# Altium footprint library Diodes.PcbLib: 27 footprints (part 1 of 2)
Each footprint in its own frame and in the unit in brackets; x right, y up, seen from the top. Pads: shape width x height; smd on the part's side, far side on the other; paste and mask are expansions set on the pad; w line width, h text height; cw(c..) or ccw(c..) is an arc to the next point about the centre after c.
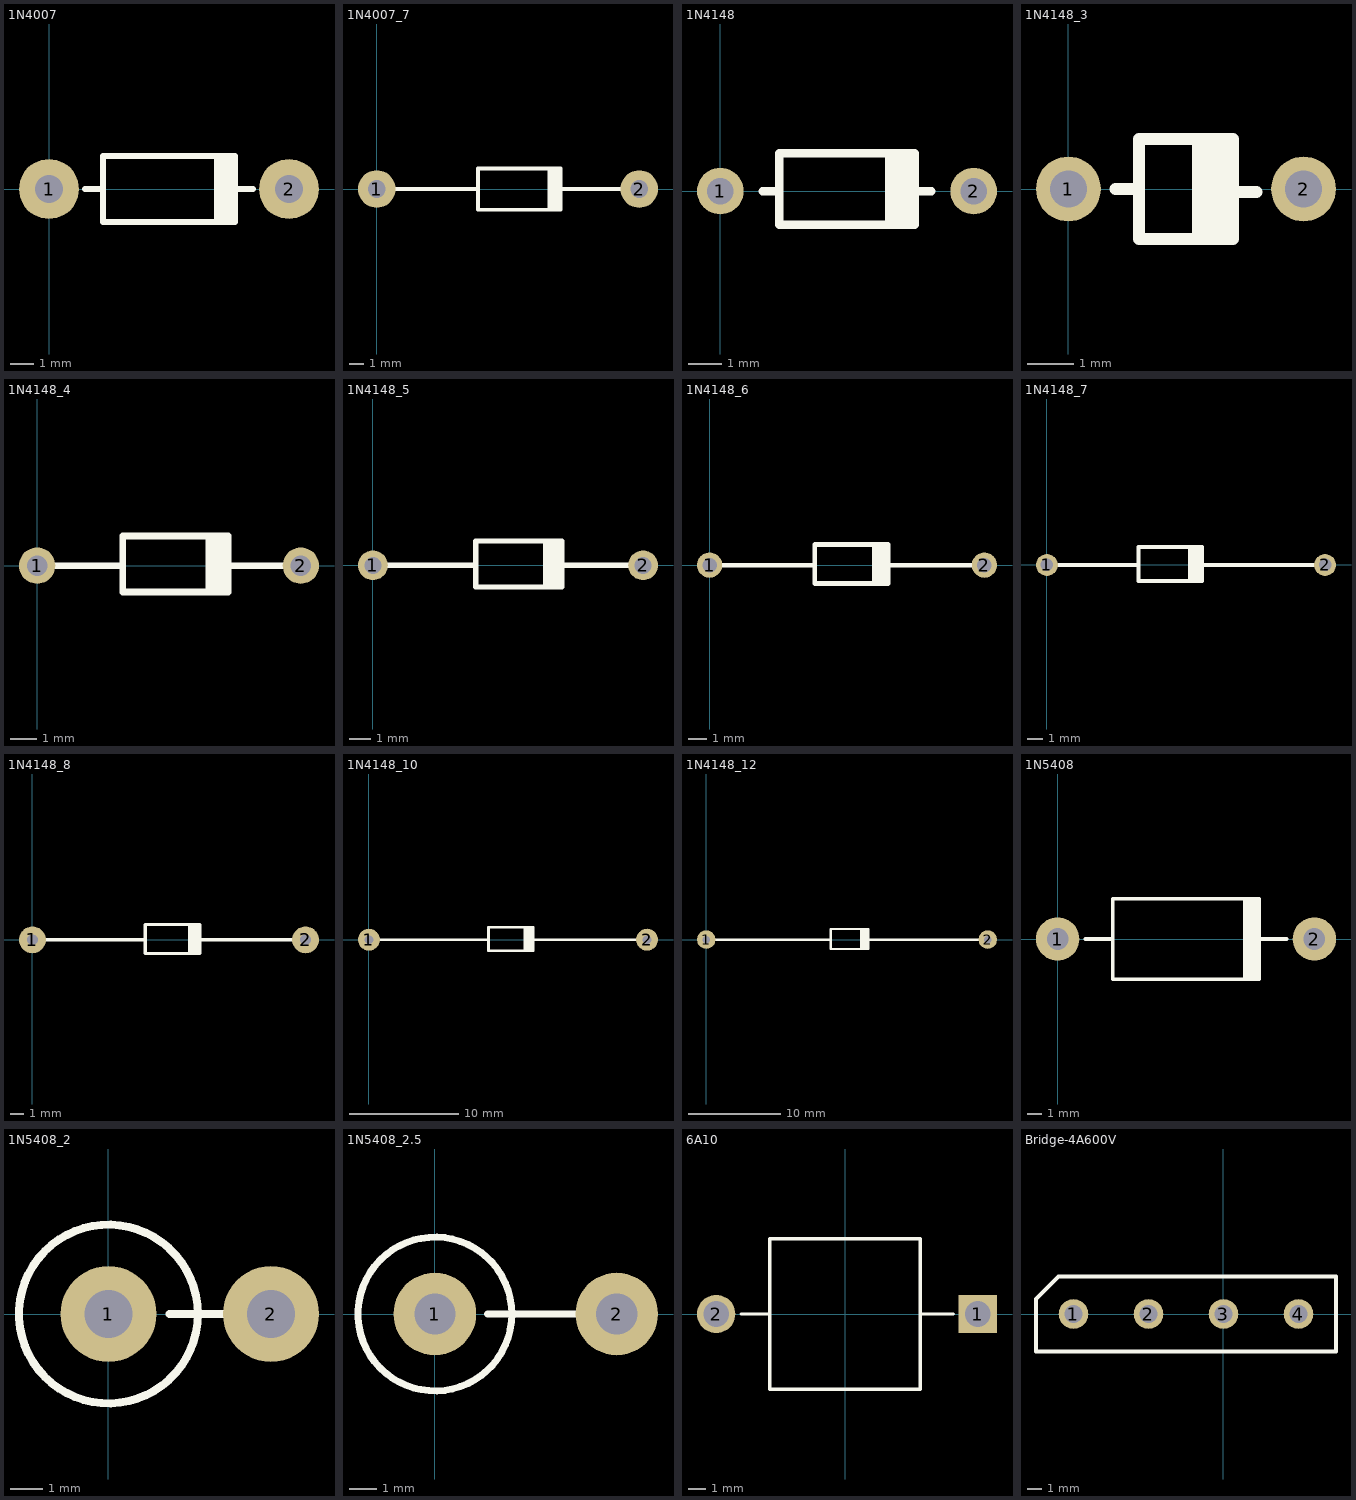
[diagram p0: the footprints below, top view; thin cyan lines are the x and y axes]

## 1N4007 [mm]
pads (2):
  round 2.54 hole 1.2: 1(0,0) 2(10.16,0)
Top Overlay:
  lines w0.254: 1.524,0 2.286,0 ; 7.112,-1.397 7.112,1.397 ; 7.366,-1.397 7.366,1.397 ; 7.62,-1.397 7.62,1.397 ; 7.874,0 8.636,0 ; 2.286,-1.397 7.874,-1.397 7.874,1.397 2.286,1.397 2.286,-1.397

## 1N4007_7 [mm]
pads (2):
  round 2.54 hole 1.2: 1(0,0) 2(17.78,0)
Top Overlay:
  lines w0.254: 0,0 6.858,0 ; 11.684,-1.397 11.684,1.397 ; 11.938,-1.397 11.938,1.397 ; 12.192,-1.397 12.192,1.397 ; 12.446,0 17.78,0 ; 6.858,-1.397 12.446,-1.397 12.446,1.397 6.858,1.397 6.858,-1.397

## 1N4148 [mm]
pads (2):
  round 1.4 hole 0.8: 1(0,0) 2(7.62,0)
Top Overlay:
  lines w0.254: 1.27,0 1.778,0 ; 5.08,-1.016 5.08,1.143 ; 5.334,-1.016 5.334,1.143 ; 5.588,-1.016 5.588,1.143 ; 5.842,0 6.35,0 ; 1.778,-1.016 1.778,1.143 5.842,1.143 5.842,-1.016 1.778,-1.016

## 1N4148_3 [mm]
pads (2):
  round 1.4 hole 0.8: 1(0,0) 2(5.08,0)
Top Overlay:
  lines w0.254: 1.016,0 1.524,0 ; 2.794,-1.079 2.794,1.079 ; 3.048,-1.079 3.048,1.079 ; 3.302,-1.079 3.302,1.079 ; 3.556,-0.064 4.064,-0.064 ; 1.524,-1.079 3.556,-1.079 3.556,1.079 1.524,1.079 1.524,-1.079

## 1N4148_4 [mm]
pads (2):
  round 1.4 hole 0.8: 1(0,0) 2(10.16,0)
Top Overlay:
  lines w0.254: 0,0 3.302,0 ; 6.604,-1.016 6.604,1.143 ; 6.858,-1.016 6.858,1.143 ; 7.112,-1.016 7.112,1.143 ; 7.366,0 10.16,0 ; 3.302,-1.016 3.302,1.143 7.366,1.143 7.366,-1.016 3.302,-1.016

## 1N4148_5 [mm]
pads (2):
  round 1.4 hole 0.8: 1(0,0) 2(12.7,0)
Top Overlay:
  lines w0.254: 0,0 4.826,0 ; 8.128,-1.016 8.128,1.143 ; 8.382,-1.016 8.382,1.143 ; 8.636,-1.016 8.636,1.143 ; 8.89,0 12.7,0 ; 4.826,-1.016 4.826,1.143 8.89,1.143 8.89,-1.016 4.826,-1.016

## 1N4148_6 [mm]
pads (2):
  round 1.4 hole 0.8: 1(0,0) 2(15.24,0)
Top Overlay:
  lines w0.254: 0,0 5.842,0 ; 9.144,-1.016 9.144,1.143 ; 9.398,-1.016 9.398,1.143 ; 9.652,-1.016 9.652,1.143 ; 9.906,0 15.24,0 ; 5.842,-1.016 9.906,-1.016 9.906,1.143 5.842,1.143 5.842,-1.016

## 1N4148_7 [mm]
pads (2):
  round 1.4 hole 0.8: 1(0,0) 2(17.78,0)
Top Overlay:
  lines w0.254: 0,0 5.842,0 ; 9.144,-1.016 9.144,1.143 ; 9.398,-1.016 9.398,1.143 ; 9.652,-1.016 9.652,1.143 ; 9.906,0 17.78,0 ; 5.842,-1.016 9.906,-1.016 9.906,1.143 5.842,1.143 5.842,-1.016

## 1N4148_8 [mm]
pads (2):
  round 2 hole 0.8: 1(0,0) 2(20.32,0)
Top Overlay:
  lines w0.254: 0,0 8.382,0 ; 11.684,-1.016 11.684,1.143 ; 11.938,-1.016 11.938,1.143 ; 12.192,-1.016 12.192,1.143 ; 12.446,0 20.32,0 ; 8.382,-1.016 12.446,-1.016 12.446,1.143 8.382,1.143 8.382,-1.016

## 1N4148_10 [mm]
pads (2):
  round 2 hole 0.8: 1(0,0) 2(25.4,0)
Top Overlay:
  lines w0.254: 0,0 10.922,0 ; 14.224,-1.016 14.224,1.143 ; 14.478,-1.016 14.478,1.143 ; 14.732,-1.016 14.732,1.143 ; 14.986,0 25.4,0 ; 10.922,-1.016 14.986,-1.016 14.986,1.143 10.922,1.143 10.922,-1.016

## 1N4148_12 [mm]
pads (2):
  round 2 hole 0.8: 1(0,0) 2(30.48,0)
Top Overlay:
  lines w0.254: 0,0 13.462,0 ; 16.764,-1.016 16.764,1.143 ; 17.018,-1.016 17.018,1.143 ; 17.272,-1.016 17.272,1.143 ; 17.526,0 30.48,0 ; 13.462,-1.016 17.526,-1.016 17.526,1.143 13.462,1.143 13.462,-1.016

## 1N5408 [mm]
pads (2):
  round 3 hole 1.5: 1(0,0) 2(17.78,0)
Top Overlay:
  lines w0.254: 1.905,0 3.81,0 ; 13.208,-2.794 13.208,2.794 ; 13.462,-2.794 13.462,2.794 ; 13.716,-2.794 13.716,2.794 ; 13.97,0 15.875,0 ; 12.954,-2.794 12.954,2.794 ; 12.954,-2.794 12.954,2.794 ; 12.954,-2.794 12.954,2.794 ; 3.81,-2.794 13.97,-2.794 13.97,2.794 3.81,2.794 3.81,-2.794

## 1N5408_2 [mm]
pads (2):
  round 3 hole 1.5: 1(0,0) 2(5.08,0)
Top Overlay:
  circle w0.254: c0,0 r2.794
  lines w0.254: 1.905,0 3.81,0

## 1N5408_2.5 [mm]
pads (2):
  round 3 hole 1.5: 1(0,0) 2(6.604,0)
Top Overlay:
  circle w0.254: c0,0 r2.794
  lines w0.254: 1.905,0 6.604,0

## 6A10 [mm]
pads (2):
  rect 2.25x2.25 hole 1.5: 1(7.799,0)
  round 2.25 hole 1.5: 2(-7.568,0)
Top Overlay:
  lines w0.2: -6.096,0 -4.425,0 ; 4.425,0 6.35,0 ; -4.425,-4.425 -4.425,4.425 4.425,4.425 4.425,-4.425 -4.425,-4.425
3D body: height 8.89, standoff -5.82, extent -8.158,-4.548 8.382,4.572

## Bridge-4A600V [mm]
pads (4):
  round 2 hole 1.2: 1(-10.16,0) 2(-5.08,0) 3(0,0) 4(5.08,0)
Top Overlay:
  lines w0.254: -12.7,-2.54 -12.7,1.016 -11.176,2.54 7.62,2.54 7.62,-2.54 -12.7,-2.54